# EAGLE library part BAS16VY (library BAS16VY)
Silicon Schottky Diodes General-purpose diode for high-speed switching Source:http://www.nxp.com/documents/data_sheet/BAS16_SER.pdff
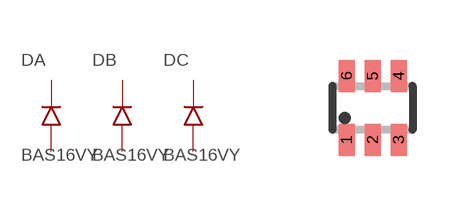
[diagram p0: symbol with the pads of SOT363_PHILIPS; footprint SOT363_PHILIPS]

Designator prefix D; gates A=SDD_AKAK B=SDD_AKAK C=SDD_AKAK

## BAS16VY  [SOT363_PHILIPS]
1  A:A1  pas
2  B:A1  pas
3  C:A1  pas
4  A:C1  pas
5  B:C1  pas
6  C:C1  pas

## Footprint SOT363_PHILIPS (pad centres in mm)
Small Outline Transistor; 6 leads Philips Semiconductors, SOT363.pdf
smd 0.4 x 0.8: 1 -0.65,-0.8; 2 0,-0.8; 3 0.65,-0.8; 4 0.65,0.8; 5 0,0.8; 6 -0.65,0.8